# EAGLE library part 43045-08 (library con-molex-micro-fit)
HEADER
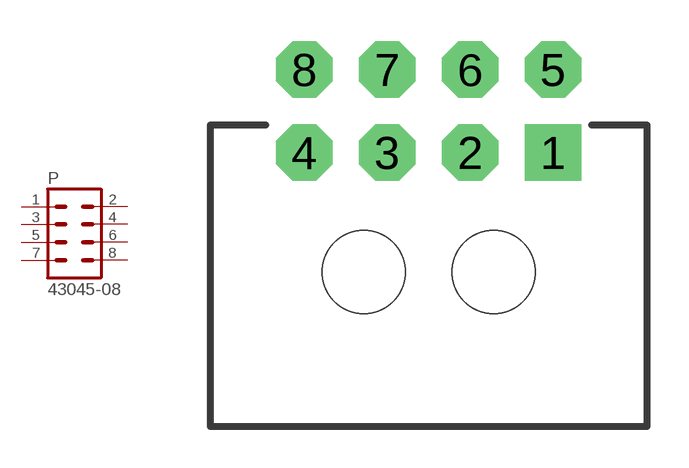
[diagram p1: symbol with the pads of 43045-08; footprint 43045-08]

Designator prefix P

## 43045-08  [43045-08]
1  1  pas
2  2  pas
3  3  pas
4  4  pas
5  5  pas
6  6  pas
7  7  pas
8  8  pas

## Footprint 43045-08 (pad centres in mm)
HEADER
drill 1.016 pad 2.032 square: 1 4.5,0
drill 1.016 pad 2.032 octagon: 2 1.5,0; 3 -1.5,0; 4 -4.5,0; 5 4.5,3; 6 1.5,3; 7 -1.5,3; 8 -4.5,3
hole 3 at -2.35,-4.32
hole 3 at 2.35,-4.32